# Altium schematic symbol library LM27762DSSR.SCHLIB: 1 symbol
Pins are listed as number, name and electrical type; pins without a type are passive.

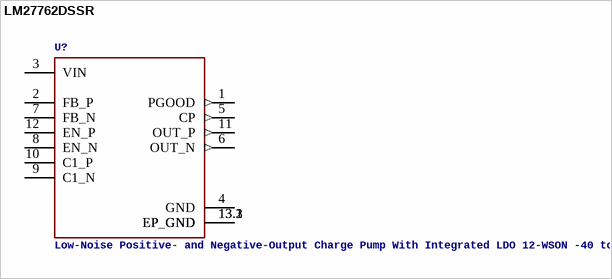
[diagram p0: symbol LM27762DSSR]

## LM27762DSSR
designator U?, comment Low-Noise Positive- and Negative-Output Charge Pump With Integrated LDO 12-WSON -40 to 85
GateName_1: G$1; SymbolName_1: LM27762DSSR; MF: Texas Instruments; LibraryName: LM27762DSSR; DeviceSetName: LM27762DSSR; Purchase-URL: https://pricing.snapeda.com/search/part/LM27762DSSR/?ref=eda; Digi-Key_Part_Number: 296-47331-2-ND; Package: WSON-12 Texas Instruments; MP: LM27762DSSR
footprint VREG_LM27762DSSR
pins: 1 PGOOD (out), 2 FB_P, 3 VIN, 4 GND (power), 5 CP (out), 6 OUT_N (out), 7 FB_N, 8 EN_N, 9 C1_N, 10 C1_P, 11 OUT_P (out), 12 EN_P, 13 EP_GND (power), 13.1 EP_GND (power), 13.2 EP_GND (power), 13.3 EP_GND (power)